# EAGLE library part WE-FB_EP10_SCH2 (library WE-FB)
WE-FB Flyback Transformer suitable for LT3573/ LT3574/ LT3575/ LT3748 Characteristics Easy design-in solution Less external components needed Small board space Low cost No optocoupler needed! Long term reliability voltage control No aging Same external parts for different output voltages Easy design of custom power supply due to standard circuit and change of transformers and two components for feedback loop Isolation voltage up to 2.5 kV Applications Isolated power design Sensor interfaces Isolated telecom converters Power over Ethernet <https://www.we-online.com/catalog/media/o35283v209%20Family_we-fb_LT%20Kits_gruppe.jpg> Details see: www.we-online.com/catalog/WE-FB <www.we-online.com/catalog/WE-FB/?utm_source=eagle_model&utm_medium=description_link&utm_campaign=eisos_eagle> Updated by Ella Wu 2022-07-21 2022 Wurth Elektronik
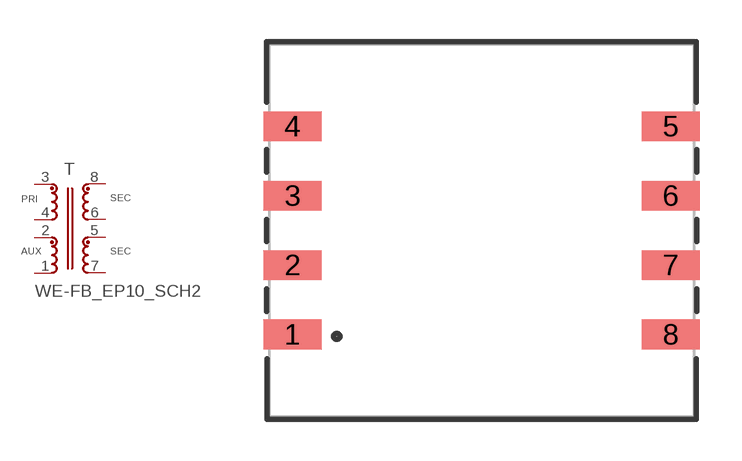
[diagram p10: symbol with the pads of WE-FB_EP10; footprint WE-FB_EP10]

Designator prefix T

## WE-FB_EP10_SCH2_750310564 (DATASHEET-URL: https://www.we-online.com/redexpert/spec/750310564?ae; IOUT: 1A/1A; ISAT: 1.45A; L: 63uH; LSMIN: 0.6uH; MOUNT: SMT; N: 3:1; PART-NUMBER: 750310564; VALUE: 750310564; VIN: 12-30V(DC); VOUT: 5V/5V; VT: 1500V(AC))  [WE-FB_EP10]
1  4  pas
2  3  pas
3  1  pas
4  2  pas
5  6  pas
6  7  pas
7  5  pas
8  8  pas

## Footprint WE-FB_EP10 (pad centres in mm)
WE-FB Flyback Transformer suitable for LT3573/ LT3574/ LT3575/ LT3748 Size: EP10 SMD 6Pin
smd 2.08 x 1.07: 1 -6.78,-3.735; 2 -6.78,-1.245; 3 -6.78,1.245; 4 -6.78,3.735; 5 6.78,3.735; 6 6.78,1.245; 7 6.78,-1.245; 8 6.78,-3.735